# Altium schematic symbol library AT45DB.SchLib: 2 symbols
Pins are listed as number, name and electrical type; pins without a type are passive.

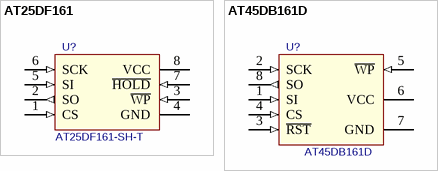
[diagram p0: symbols AT25DF161 to AT45DB161D]

## AT25DF161
designator U?, comment AT25DF161-SH-T
Value: AT25DF161-SH-T
footprint SOIC8WA
pins: 1 CS (in), 2 SO (out), 3 ~{WP} (in), 4 GND (power), 5 SI (in), 6 SCK (in), 7 ~{HOLD} (in), 8 VCC (power)

## AT45DB161D
designator U?
Value: *
footprint SOIC8WA
pins: 1 SI (in), 2 SCK (in), 3 ~{RST} (in), 4 CS (in), 5 ~{WP} (in), 6 VCC (power), 7 GND (power), 8 SO (out)